# Altium footprint library Jump.PcbLib: 91 footprints (part 3 of 6)
Each footprint in its own frame and in the unit in brackets; x right, y up, seen from the top. Pads: shape width x height; smd on the part's side, far side on the other; paste and mask are expansions set on the pad; w line width, h text height; cw(c..) or ccw(c..) is an arc to the next point about the centre after c.
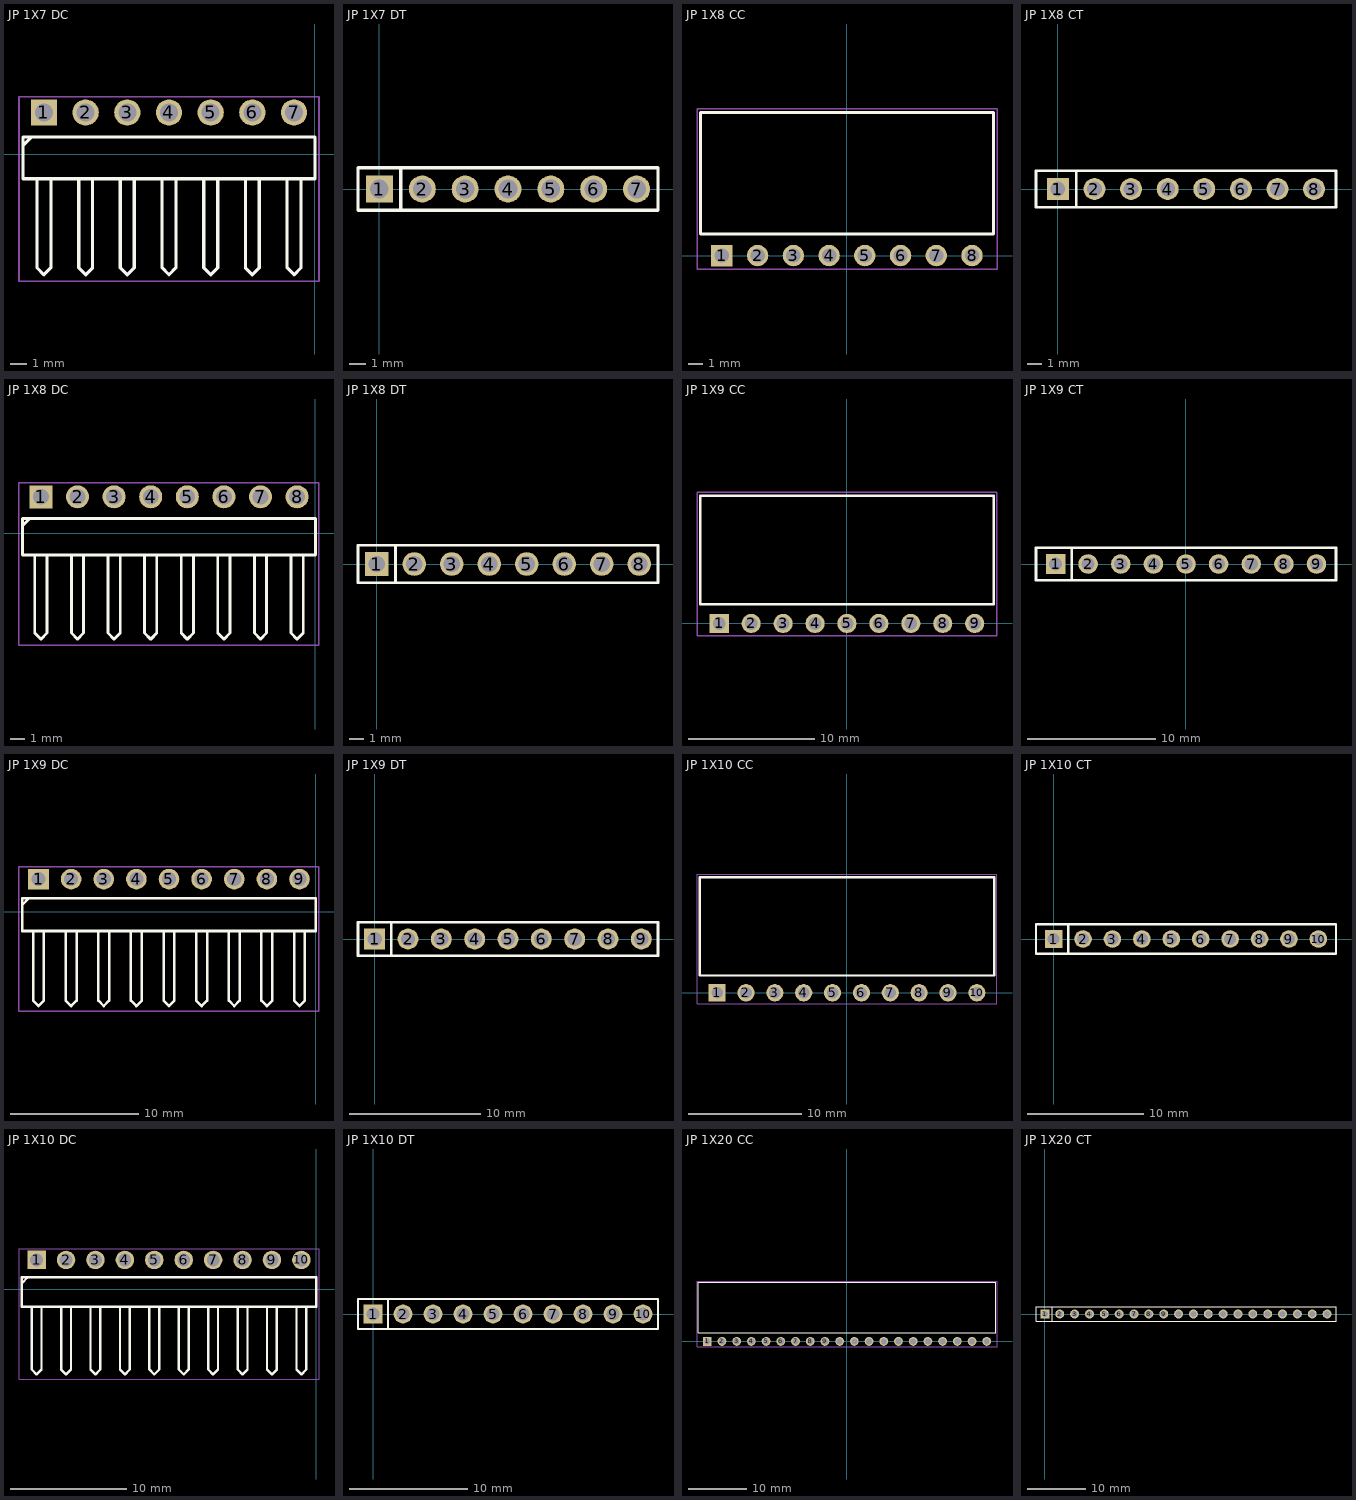
[diagram p2: the footprints below, top view; thin cyan lines are the x and y axes]

## JP 1X7 DC [mm] "7 pins, 1 row, right angled, gold plating"
height 2.54
pads (7):
  rect 1.6x1.6 hole 1.1: 1(-16.51,2.54)
  round 1.6 hole 1.1: 2(-13.97,2.54) 3(-11.43,2.54) 4(-8.89,2.54) 5(-6.35,2.54) 6(-3.81,2.54) 7(-1.27,2.54)
Top Overlay:
  lines w0.2: -17.738,0.574 -17.314,0.998 ; -16.933,-1.525 -16.933,-6.919 -16.51,-7.342 -16.087,-6.919 -16.087,-1.5 ; -14.393,-1.525 -14.393,-6.919 -13.97,-7.342 -13.547,-6.919 -13.547,-1.525 ; -11.853,-1.525 -11.853,-6.919 -11.43,-7.342 -11.007,-6.919 -11.007,-1.5 ; -9.313,-1.525 -9.313,-6.919 -8.89,-7.342 -8.467,-6.919 -8.467,-1.525 ; -6.773,-1.525 -6.773,-6.919 -6.35,-7.342 -5.927,-6.919 -5.927,-1.5 ; -4.233,-1.525 -4.233,-6.919 -3.81,-7.342 -3.387,-6.919 -3.387,-1.525 ; -1.693,-1.525 -1.693,-6.919 -1.27,-7.342 -0.847,-6.919 -0.847,-1.5 ; -17.78,-1.5 -17.78,1.04 0,1.04 0,-1.5 -17.78,-1.5
Mechanical 15:
  lines w0.1: -18.03,-7.75 0.25,-7.75 0.25,3.5 -18.03,3.5 -18.03,-7.75
3D body "61300711021.stp": height 2.55, standoff -2.99, extent -17.78,-7.524 0,2.836

## JP 1X7 DT [mm] "7 pins, 1 row, straight, gold plating"
height 8.54
pads (7):
  rect 1.6x1.6 hole 1.1: 1(0,0)
  round 1.6 hole 1.1: 2(2.54,0) 3(5.08,0) 4(7.62,0) 5(10.16,0) 6(12.7,0) 7(15.24,0)
Top Overlay:
  lines w0.2: 1.27,-1.27 1.27,1.27 ; -1.27,-1.27 -1.27,1.27 16.51,1.27 16.51,-1.27 -1.27,-1.27
3D body "61300711121.stp": height 8.54, standoff -3, extent -1.27,-1.27 16.51,1.27

## JP 1X8 CC [mm] "08p 1 row Right angle"
height 2.5
pads (8):
  rect 1.52x1.52 hole 1.02: 1(-8.89,0)
  round 1.52 hole 1.02: 2(-6.35,0) 3(-3.81,0) 4(-1.27,0) 5(1.27,0) 6(3.81,0) 7(6.35,0) 8(8.89,0)
Top Overlay:
  lines w0.2: -10.414,1.524 -10.414,10.173 10.414,10.173 10.414,1.524 -10.414,1.524
Mechanical 15:
  lines w0.1: -10.66,-0.96 -10.66,10.423 10.664,10.423 10.664,-0.96 -10.66,-0.96
3D body "613008143121.stp": height 2.51, standoff -3.08, extent -10.41,-0.254 10.41,10.046

## JP 1X8 CT [mm] "8 row, straight, gold plating"
height 8.5
pads (8):
  rect 1.52x1.52 hole 1.02: 1(0,0)
  round 1.52 hole 1.02: 2(2.54,0) 3(5.08,0) 4(7.62,0) 5(10.16,0) 6(12.7,0) 7(15.24,0) 8(17.78,0)
Top Overlay:
  lines w0.2: 1.27,-1.27 1.27,1.27 ; -1.52,-1.27 19.3,-1.27 19.3,1.27 -1.52,1.27 -1.52,-1.27
3D body "61300811821.stp": height 8.51, standoff -3.09, extent -1.52,-1.25 19.3,1.25

## JP 1X8 DC [mm] "8 pins, 1 row, right angled, gold plating"
height 2.54
pads (8):
  rect 1.6x1.6 hole 1.1: 1(-19.05,2.54)
  round 1.6 hole 1.1: 2(-16.51,2.54) 3(-13.97,2.54) 4(-11.43,2.54) 5(-8.89,2.54) 6(-6.35,2.54) 7(-3.81,2.54) 8(-1.27,2.54)
Top Overlay:
  lines w0.2: -20.278,0.574 -19.854,0.998 ; -19.473,-1.525 -19.473,-6.919 -19.05,-7.342 -18.627,-6.919 -18.627,-1.5 ; -16.933,-1.525 -16.933,-6.919 -16.51,-7.342 -16.087,-6.919 -16.087,-1.525 ; -14.393,-1.525 -14.393,-6.919 -13.97,-7.342 -13.547,-6.919 -13.547,-1.5 ; -11.853,-1.525 -11.853,-6.919 -11.43,-7.342 -11.007,-6.919 -11.007,-1.525 ; -9.313,-1.525 -9.313,-6.919 -8.89,-7.342 -8.467,-6.919 -8.467,-1.5 ; -6.773,-1.525 -6.773,-6.919 -6.35,-7.342 -5.927,-6.919 -5.927,-1.525 ; -4.233,-1.525 -4.233,-6.919 -3.81,-7.342 -3.387,-6.919 -3.387,-1.5 ; -1.693,-1.525 -1.693,-6.919 -1.27,-7.342 -0.847,-6.919 -0.847,-1.525 ; -20.32,-1.5 -20.32,1.04 0,1.04 0,-1.5 -20.32,-1.5
Mechanical 15:
  lines w0.1: -20.57,-7.75 -20.57,3.5 0.25,3.5 0.25,-7.75 -20.57,-7.75
3D body "61300811021.stp": height 2.55, standoff -2.99, extent -20.32,-7.524 0,2.836

## JP 1X8 DT [mm] "8 pins, 1 row, straight, gold plating"
height 8.54
pads (8):
  rect 1.6x1.6 hole 1.1: 1(0,0)
  round 1.6 hole 1.1: 2(2.54,0) 3(5.08,0) 4(7.62,0) 5(10.16,0) 6(12.7,0) 7(15.24,0) 8(17.78,0)
Top Overlay:
  lines w0.2: 1.27,-1.27 1.27,1.27 ; -1.27,-1.27 19.05,-1.27 19.05,1.27 -1.27,1.27 -1.27,-1.27
3D body "61300811121.stp": height 8.54, standoff -3, extent -1.27,-1.27 19.05,1.27

## JP 1X9 CC [mm] "09p 1 row Right angle"
height 2.5
pads (9):
  rect 1.52x1.52 hole 1.02: 1(-10.16,0)
  round 1.52 hole 1.02: 2(-7.62,0) 3(-5.08,0) 4(-2.54,0) 5(0,0) 6(2.54,0) 7(5.08,0) 8(7.62,0) 9(10.16,0)
Top Overlay:
  lines w0.2: -11.684,1.524 -11.684,10.173 11.684,10.173 11.684,1.524 -11.684,1.524
Mechanical 15:
  lines w0.1: -11.93,-0.96 11.934,-0.96 11.934,10.423 -11.93,10.423 -11.93,-0.96
3D body "613009143121.stp": height 2.51, standoff -3.08, extent -11.68,-0.208 11.68,10.092

## JP 1X9 CT [mm] "9 row, straight, gold plating"
height 8.5
pads (9):
  rect 1.52x1.52 hole 1.02: 1(-10.16,0)
  round 1.52 hole 1.02: 2(-7.62,0) 3(-5.08,0) 4(-2.54,0) 5(0,0) 6(2.54,0) 7(5.08,0) 8(7.62,0) 9(10.16,0)
Top Overlay:
  lines w0.2: -8.89,-1.27 -8.89,1.27 ; -11.68,-1.27 11.68,-1.27 11.68,1.27 -11.68,1.27 -11.68,-1.27
3D body "61300911821.stp": height 8.51, standoff -3.09, extent -11.68,-1.25 11.68,1.25

## JP 1X9 DC [mm] "9 pins, 1 row, right angled, gold plating"
height 2.54
pads (9):
  rect 1.6x1.6 hole 1.1: 1(-21.59,2.54)
  round 1.6 hole 1.1: 2(-19.05,2.54) 3(-16.51,2.54) 4(-13.97,2.54) 5(-11.43,2.54) 6(-8.89,2.54) 7(-6.35,2.54) 8(-3.81,2.54) 9(-1.27,2.54)
Top Overlay:
  lines w0.2: -22.818,0.574 -22.394,0.998 ; -22.013,-1.525 -22.013,-6.919 -21.59,-7.342 -21.167,-6.919 -21.167,-1.5 ; -19.473,-1.525 -19.473,-6.919 -19.05,-7.342 -18.627,-6.919 -18.627,-1.525 ; -16.933,-1.525 -16.933,-6.919 -16.51,-7.342 -16.087,-6.919 -16.087,-1.5 ; -14.393,-1.525 -14.393,-6.919 -13.97,-7.342 -13.547,-6.919 -13.547,-1.525 ; -11.853,-1.525 -11.853,-6.919 -11.43,-7.342 -11.007,-6.919 -11.007,-1.5 ; -9.313,-1.525 -9.313,-6.919 -8.89,-7.342 -8.467,-6.919 -8.467,-1.525 ; -6.773,-1.525 -6.773,-6.919 -6.35,-7.342 -5.927,-6.919 -5.927,-1.5 ; -4.233,-1.525 -4.233,-6.919 -3.81,-7.342 -3.387,-6.919 -3.387,-1.525 ; -1.693,-1.525 -1.693,-6.919 -1.27,-7.342 -0.847,-6.919 -0.847,-1.5 ; -22.86,-1.5 -22.86,1.04 0,1.04 0,-1.5 -22.86,-1.5
Mechanical 15:
  lines w0.1: -23.11,-7.75 0.25,-7.75 0.25,3.5 -23.11,3.5 -23.11,-7.75
3D body "61300911021.stp": height 2.55, standoff -2.99, extent -22.86,-7.524 0,2.836

## JP 1X9 DT [mm] "9 pins, 1 row, straight, gold plating"
height 8.54
pads (9):
  rect 1.6x1.6 hole 1.1: 1(0,0)
  round 1.6 hole 1.1: 2(2.54,0) 3(5.08,0) 4(7.62,0) 5(10.16,0) 6(12.7,0) 7(15.24,0) 8(17.78,0) 9(20.32,0)
Top Overlay:
  lines w0.2: 1.27,-1.27 1.27,1.27 ; -1.27,-1.27 21.59,-1.27 21.59,1.27 -1.27,1.27 -1.27,-1.27
3D body "61300911121.stp": height 8.54, standoff -3, extent -1.27,-1.27 21.59,1.27

## JP 1X10 CC [mm] "10p 1 row Right angle"
height 2.5
pads (10):
  rect 1.52x1.52 hole 1.02: 1(-11.43,0)
  round 1.52 hole 1.02: 2(-8.89,0) 3(-6.35,0) 4(-3.81,0) 5(-1.27,0) 6(1.27,0) 7(3.81,0) 8(6.35,0) 9(8.89,0) 10(11.43,0)
Top Overlay:
  lines w0.2: -12.954,1.524 12.954,1.524 12.954,10.173 -12.954,10.173 -12.954,1.524
Mechanical 15:
  lines w0.1: -13.2,-0.96 13.204,-0.96 13.204,10.423 -13.2,10.423 -13.2,-0.96
3D body "613010143121.stp": height 2.51, standoff -3.08, extent -12.95,-0.208 12.95,10.092

## JP 1X10 CT [mm] "10 row, straight, gold plating"
height 8.5
pads (10):
  rect 1.52x1.52 hole 1.02: 1(0,0)
  round 1.52 hole 1.02: 2(2.54,0) 3(5.08,0) 4(7.62,0) 5(10.16,0) 6(12.7,0) 7(15.24,0) 8(17.78,0) 9(20.32,0) 10(22.86,0)
Top Overlay:
  lines w0.2: 1.27,-1.27 1.27,1.27 ; -1.52,-1.27 -1.52,1.27 0.635,1.27 24.38,1.27 24.38,-1.27 -1.52,-1.27
3D body "61301011821.stp": height 8.51, standoff -3.09, extent -1.52,-1.25 24.38,1.25

## JP 1X10 DC [mm] "10 pins, 1 row, right angled, gold plating"
height 2.54
pads (10):
  rect 1.6x1.6 hole 1.1: 1(-24.13,2.54)
  round 1.6 hole 1.1: 2(-21.59,2.54) 3(-19.05,2.54) 4(-16.51,2.54) 5(-13.97,2.54) 6(-11.43,2.54) 7(-8.89,2.54) 8(-6.35,2.54) 9(-3.81,2.54) 10(-1.27,2.54)
Top Overlay:
  lines w0.2: -25.358,0.574 -24.934,0.998 ; -24.553,-1.525 -24.553,-6.919 -24.13,-7.342 -23.707,-6.919 -23.707,-1.5 ; -22.013,-1.525 -22.013,-6.919 -21.59,-7.342 -21.167,-6.919 -21.167,-1.525 ; -19.473,-1.525 -19.473,-6.919 -19.05,-7.342 -18.627,-6.919 -18.627,-1.5 ; -16.933,-1.525 -16.933,-6.919 -16.51,-7.342 -16.087,-6.919 -16.087,-1.525 ; -14.393,-1.525 -14.393,-6.919 -13.97,-7.342 -13.547,-6.919 -13.547,-1.5 ; -11.853,-1.525 -11.853,-6.919 -11.43,-7.342 -11.007,-6.919 -11.007,-1.525 ; -9.313,-1.525 -9.313,-6.919 -8.89,-7.342 -8.467,-6.919 -8.467,-1.5 ; -6.773,-1.525 -6.773,-6.919 -6.35,-7.342 -5.927,-6.919 -5.927,-1.525 ; -4.233,-1.525 -4.233,-6.919 -3.81,-7.342 -3.387,-6.919 -3.387,-1.5 ; -1.693,-1.525 -1.693,-6.919 -1.27,-7.342 -0.847,-6.919 -0.847,-1.525 ; -25.4,-1.5 -25.4,1.04 0,1.04 0,-1.5 -25.4,-1.5
Mechanical 15:
  lines w0.1: -25.65,-7.75 -25.65,3.5 0.25,3.5 0.25,-7.75 -25.65,-7.75
3D body "61301011021.stp": height 2.55, standoff -2.99, extent -25.4,-7.524 0,2.836

## JP 1X10 DT [mm] "10 pins, 1 row, straight, gold plating"
height 8.54
pads (10):
  rect 1.6x1.6 hole 1.1: 1(0,0)
  round 1.6 hole 1.1: 2(2.54,0) 3(5.08,0) 4(7.62,0) 5(10.16,0) 6(12.7,0) 7(15.24,0) 8(17.78,0) 9(20.32,0) 10(22.86,0)
Top Overlay:
  lines w0.2: 1.27,-1.27 1.27,1.27 ; -1.27,-1.27 -1.27,1.27 0.635,1.27 24.13,1.27 24.13,-1.27 -1.27,-1.27
3D body "61301011121.stp": height 8.54, standoff -3, extent -1.27,-1.27 24.13,1.27

## JP 1X20 CC [mm] "20p 1 row Right angle"
height 2.5
pads (20):
  rect 1.52x1.52 hole 1.02: 1(-24.13,0)
  round 1.52 hole 1.02: 2(-21.59,0) 3(-19.05,0) 4(-16.51,0) 5(-13.97,0) 6(-11.43,0) 7(-8.89,0) 8(-6.35,0) 9(-3.81,0) 10(-1.27,0) 11(1.27,0) 12(3.81,0) 13(6.35,0) 14(8.89,0) 15(11.43,0) 16(13.97,0) 17(16.51,0) 18(19.05,0) 19(21.59,0) 20(24.13,0)
Top Overlay:
  lines w0.2: -25.654,1.524 -25.654,10.173 25.654,10.173 25.654,1.524 -25.654,1.524
Mechanical 15:
  lines w0.1: -25.9,-0.96 -25.9,10.423 25.904,10.423 25.904,-0.96 -25.9,-0.96
3D body "613020143121.stp": height 2.51, standoff -3.08, extent -25.65,-0.208 25.65,10.092

## JP 1X20 CT [mm] "20 row, straight, gold plating"
height 8.5
pads (20):
  rect 1.52x1.52 hole 1.02: 1(0,0)
  round 1.52 hole 1.02: 2(2.54,0) 3(5.08,0) 4(7.62,0) 5(10.16,0) 6(12.7,0) 7(15.24,0) 8(17.78,0) 9(20.32,0) 10(22.86,0) 11(25.4,0) 12(27.94,0) 13(30.48,0) 14(33.02,0) 15(35.56,0) 16(38.1,0) 17(40.64,0) 18(43.18,0) 19(45.72,0) 20(48.26,0)
Top Overlay:
  lines w0.2: 1.27,-1.27 1.27,1.27 ; -1.52,-1.27 49.78,-1.27 49.78,1.27 0.635,1.27 -1.52,1.27 -1.52,-1.27
3D body "61302011821.stp": height 8.51, standoff -3.09, extent -1.52,-1.25 49.78,1.25